# EAGLE library part 74193 (library be_logic)
edited: Mario Blunk / Blunk electronic
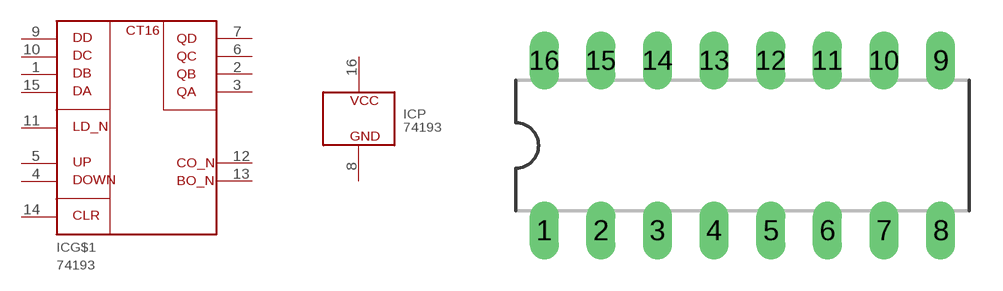
[diagram p5: symbol with the pads of T_NDIP16; footprint T_NDIP16]

Designator prefix IC; gates G$1=74193 P=PWR

## 74193N (BOM: YES; COMMISSIONED: 2018-09-16; PART_CODE_BEL: IC_PAC_NDIP16_VAL_x74x193N)  [T_NDIP16]
1  G$1:DB  in
2  G$1:QB  out
3  G$1:QA  out
4  G$1:DOWN  in
5  G$1:UP  in
6  G$1:QC  out
7  G$1:QD  out
8  P:GND  pwr
9  G$1:DD  in
10  G$1:DC  in
11  G$1:LD_N  in
12  G$1:CO_N  out
13  G$1:BO_N  out
14  G$1:CLR  in
15  G$1:DA  in
16  P:VCC  pwr

## Footprint T_NDIP16 (pad centres in mm)
edited: Mario Blunk / Blunk electronic date: 2015-05-19
drill 0.8 long: 1 -8.89,-3.81; 2 -6.35,-3.81; 3 -3.81,-3.81; 4 -1.27,-3.81; 5 1.27,-3.81; 6 3.81,-3.81; 7 6.35,-3.81; 8 8.89,-3.81; 9 8.89,3.81; 10 6.35,3.81; 11 3.81,3.81; 12 1.27,3.81; 13 -1.27,3.81; 14 -3.81,3.81; 15 -6.35,3.81; 16 -8.89,3.81